# Altium footprint library Test Point.PcbLib: 4 footprints
Each footprint in its own frame and in the unit in brackets; x right, y up, seen from the top. Pads: shape width x height; smd on the part's side, far side on the other; paste and mask are expansions set on the pad; w line width, h text height; cw(c..) or ccw(c..) is an arc to the next point about the centre after c.
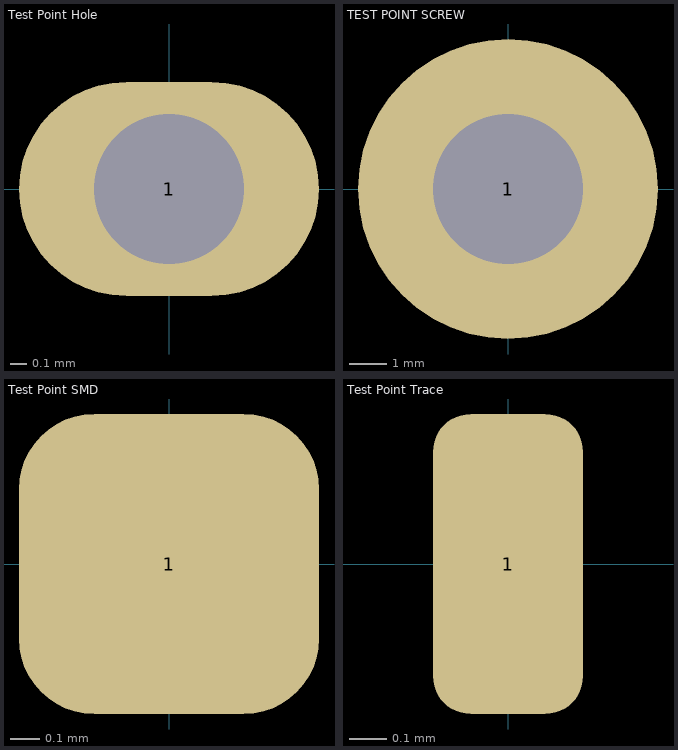
[diagram p0: the footprints below, top view; thin cyan lines are the x and y axes]

## Test Point Hole [mil]
pads (1):
  oval 70x50 hole 35: 1(0,0)

## TEST POINT SCREW [mm]
pads (1):
  round 8 hole 4: 1(0,0)

## Test Point SMD [mil]
pads (1):
  rrect50% 40x40 smd: 1(0,0)

## Test Point Trace [mil]
pads (1):
  rrect50% 16x32 smd mask+2: 1(0,0)